# Altium footprint library con-omron.PCBLIB: 109 footprints (part 4 of 8)
Each footprint in its own frame and in the unit in brackets; x right, y up, seen from the top. Pads: shape width x height; smd on the part's side, far side on the other; paste and mask are expansions set on the pad; w line width, h text height; cw(c..) or ccw(c..) is an arc to the next point about the centre after c.
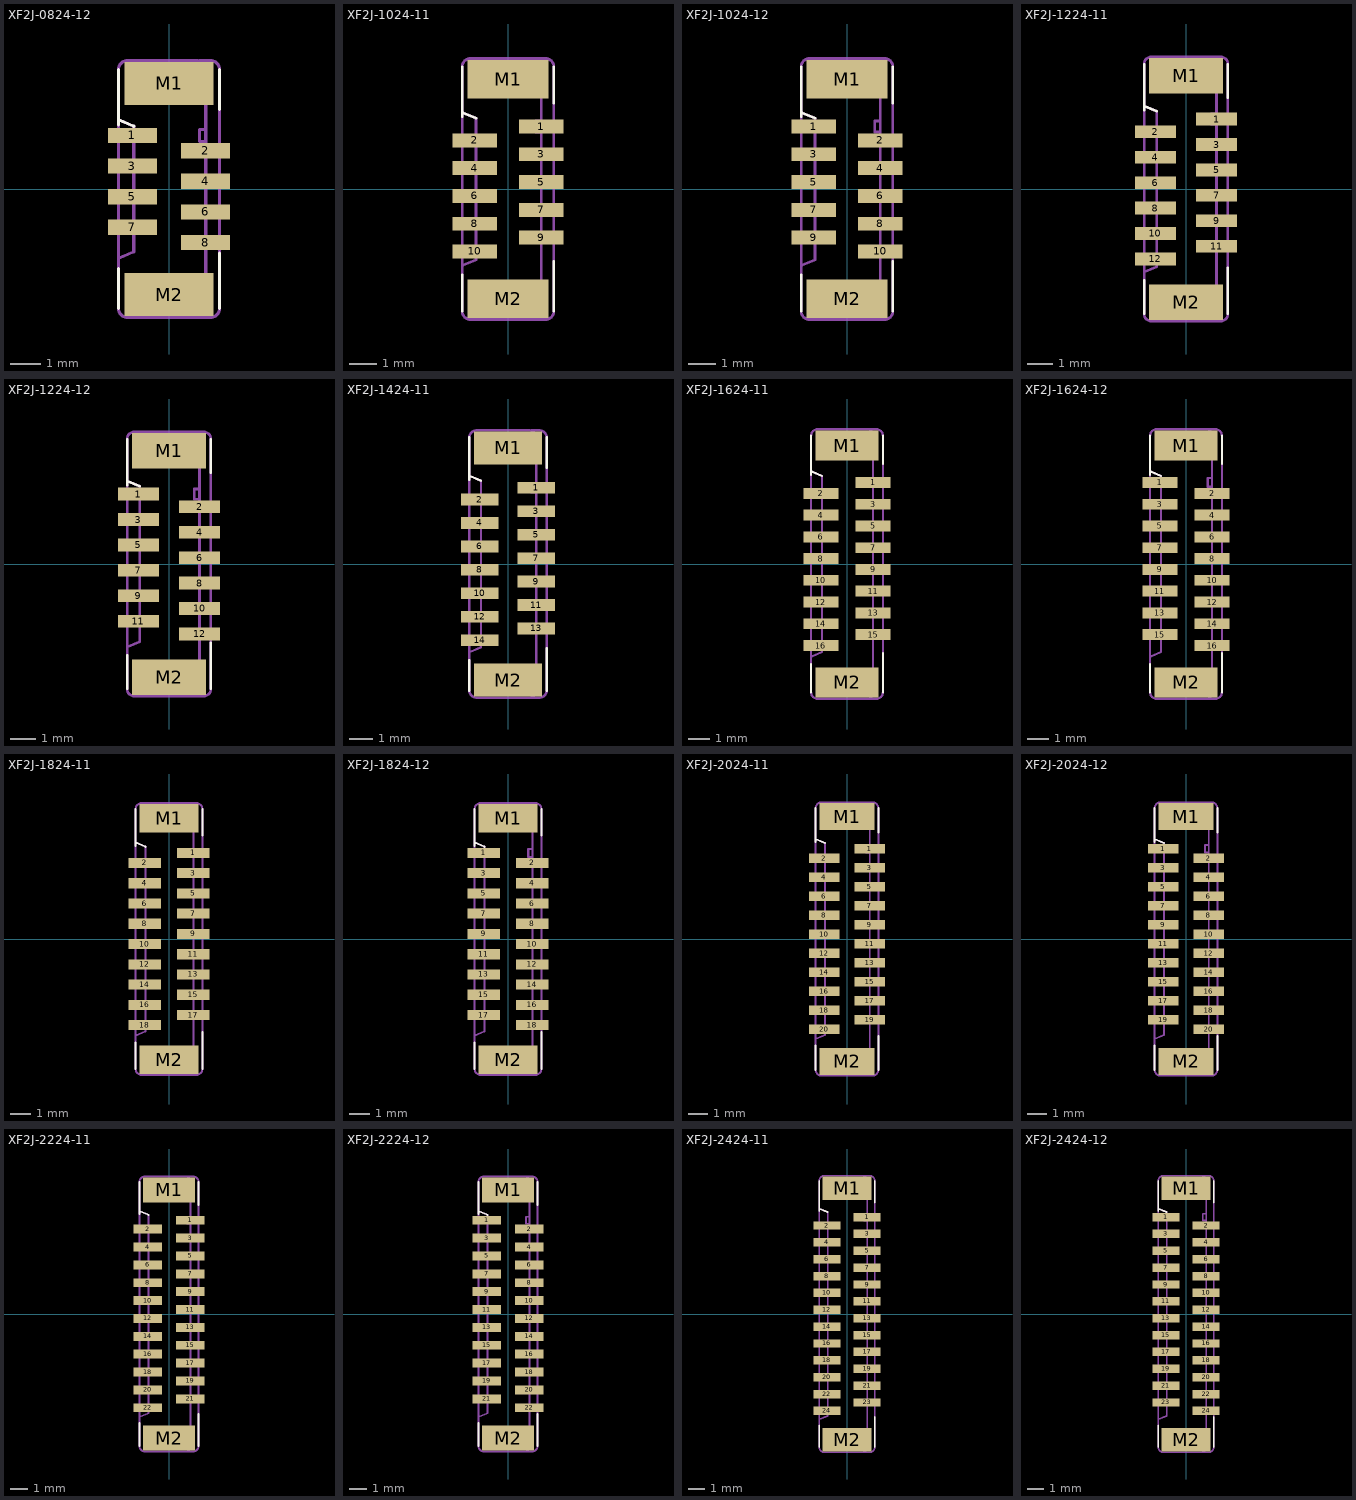
[diagram p3: the footprints below, top view; thin cyan lines are the x and y axes]

## XF2J-0824-12 [mm]
pads (10):
  rect 1.6x0.5 smd: 1(-1.2,1.75) 2(1.2,1.25) 3(-1.2,0.75) 4(1.2,0.25) 5(-1.2,-0.25) 6(1.2,-0.75) 7(-1.2,-1.25) 8(1.2,-1.75)
  rect 2.9x1.4 smd: M1(0,3.45) M2(0,-3.45)
Top Overlay:
  lines w0.102: -1.65,-3.9 -1.65,-2.6 ; -1.65,2.1 -1.65,3.9 ; -1.625,2.25 -1.15,2.05 ; 1.65,-3.9 1.65,-2.1 ; 1.65,2.6 1.65,3.9
Mechanical 16:
  lines w0.102: -1.625,-2.25 -1.15,-2.05 -1.15,2.05 -1.625,2.25 ; 0.975,-4.2 1.35,-4.2 ccw(c1.35,-3.9) 1.65,-3.9 1.65,3.9 ccw(c1.35,3.9) 1.35,4.2 1,4.2 ; 1.15,1.55 1,1.55 1,1.95 1.15,1.95 ; -1.65,-3.9 -1.65,3.9 cw(c-1.35,3.9) -1.35,4.2 0.9,4.2 cw(c0.9,3.9) 1.2,3.9 1.2,-3.9 cw(c0.9,-3.9) 0.9,-4.2 -1.35,-4.2 cw(c-1.35,-3.9) -1.65,-3.9

## XF2J-1024-11 [mm]
pads (12):
  rect 1.6x0.5 smd: 1(1.2,2.25) 2(-1.2,1.75) 3(1.2,1.25) 4(-1.2,0.75) 5(1.2,0.25) 6(-1.2,-0.25) 7(1.2,-0.75) 8(-1.2,-1.25) 9(1.2,-1.75) 10(-1.2,-2.25)
  rect 2.9x1.4 smd: M1(0,3.95) M2(0,-3.95)
Top Overlay:
  lines w0.102: -1.65,-4.4 -1.65,-3.1 ; -1.65,2.6 -1.65,4.4 ; -1.625,2.75 -1.15,2.55 ; 1.65,-4.4 1.65,-2.6 ; 1.65,3.1 1.65,4.4
Mechanical 16:
  lines w0.102: -1.625,-2.75 -1.15,-2.55 -1.15,2.55 -1.625,2.75 ; 0.975,-4.7 1.35,-4.7 ccw(c1.35,-4.4) 1.65,-4.4 1.65,4.4 ccw(c1.35,4.4) 1.35,4.7 1,4.7 ; 1.15,2.05 1,2.05 1,2.45 1.15,2.45 ; -1.65,-4.4 -1.65,4.4 cw(c-1.35,4.4) -1.35,4.7 0.9,4.7 cw(c0.9,4.4) 1.2,4.4 1.2,-4.4 cw(c0.9,-4.4) 0.9,-4.7 -1.35,-4.7 cw(c-1.35,-4.4) -1.65,-4.4

## XF2J-1024-12 [mm]
pads (12):
  rect 1.6x0.5 smd: 1(-1.2,2.25) 2(1.2,1.75) 3(-1.2,1.25) 4(1.2,0.75) 5(-1.2,0.25) 6(1.2,-0.25) 7(-1.2,-0.75) 8(1.2,-1.25) 9(-1.2,-1.75) 10(1.2,-2.25)
  rect 2.9x1.4 smd: M1(0,3.95) M2(0,-3.95)
Top Overlay:
  lines w0.102: -1.65,-4.4 -1.65,-3.1 ; -1.65,2.6 -1.65,4.4 ; -1.625,2.75 -1.15,2.55 ; 1.65,-4.4 1.65,-2.6 ; 1.65,3.1 1.65,4.4
Mechanical 16:
  lines w0.102: -1.625,-2.75 -1.15,-2.55 -1.15,2.55 -1.625,2.75 ; 0.975,-4.7 1.35,-4.7 ccw(c1.35,-4.4) 1.65,-4.4 1.65,4.4 ccw(c1.35,4.4) 1.35,4.7 1,4.7 ; 1.15,2.05 1,2.05 1,2.45 1.15,2.45 ; -1.65,-4.4 -1.65,4.4 cw(c-1.35,4.4) -1.35,4.7 0.9,4.7 cw(c0.9,4.4) 1.2,4.4 1.2,-4.4 cw(c0.9,-4.4) 0.9,-4.7 -1.35,-4.7 cw(c-1.35,-4.4) -1.65,-4.4

## XF2J-1224-11 [mm]
pads (14):
  rect 1.6x0.5 smd: 1(1.2,2.75) 2(-1.2,2.25) 3(1.2,1.75) 4(-1.2,1.25) 5(1.2,0.75) 6(-1.2,0.25) 7(1.2,-0.25) 8(-1.2,-0.75) 9(1.2,-1.25) 10(-1.2,-1.75) 11(1.2,-2.25) 12(-1.2,-2.75)
  rect 2.9x1.4 smd: M1(0,4.45) M2(0,-4.45)
Top Overlay:
  lines w0.102: -1.65,-4.9 -1.65,-3.6 ; -1.65,3.1 -1.65,4.9 ; -1.625,3.25 -1.15,3.05 ; 1.65,-4.9 1.65,-3.1 ; 1.65,3.6 1.65,4.9
Mechanical 16:
  lines w0.102: -1.625,-3.25 -1.15,-3.05 -1.15,3.05 -1.625,3.25 ; 0.975,-5.2 1.35,-5.2 ccw(c1.35,-4.9) 1.65,-4.9 1.65,4.9 ccw(c1.35,4.9) 1.35,5.2 1,5.2 ; 1.15,2.55 1,2.55 1,2.95 1.15,2.95 ; -1.65,-4.9 -1.65,4.9 cw(c-1.35,4.9) -1.35,5.2 0.9,5.2 cw(c0.9,4.9) 1.2,4.9 1.2,-4.9 cw(c0.9,-4.9) 0.9,-5.2 -1.35,-5.2 cw(c-1.35,-4.9) -1.65,-4.9

## XF2J-1224-12 [mm]
pads (14):
  rect 1.6x0.5 smd: 1(-1.2,2.75) 2(1.2,2.25) 3(-1.2,1.75) 4(1.2,1.25) 5(-1.2,0.75) 6(1.2,0.25) 7(-1.2,-0.25) 8(1.2,-0.75) 9(-1.2,-1.25) 10(1.2,-1.75) 11(-1.2,-2.25) 12(1.2,-2.75)
  rect 2.9x1.4 smd: M1(0,4.45) M2(0,-4.45)
Top Overlay:
  lines w0.102: -1.65,-4.9 -1.65,-3.6 ; -1.65,3.1 -1.65,4.9 ; -1.625,3.25 -1.15,3.05 ; 1.65,-4.9 1.65,-3.1 ; 1.65,3.6 1.65,4.9
Mechanical 16:
  lines w0.102: -1.625,-3.25 -1.15,-3.05 -1.15,3.05 -1.625,3.25 ; 0.975,-5.2 1.35,-5.2 ccw(c1.35,-4.9) 1.65,-4.9 1.65,4.9 ccw(c1.35,4.9) 1.35,5.2 1,5.2 ; 1.15,2.55 1,2.55 1,2.95 1.15,2.95 ; -1.65,-4.9 -1.65,4.9 cw(c-1.35,4.9) -1.35,5.2 0.9,5.2 cw(c0.9,4.9) 1.2,4.9 1.2,-4.9 cw(c0.9,-4.9) 0.9,-5.2 -1.35,-5.2 cw(c-1.35,-4.9) -1.65,-4.9

## XF2J-1424-11 [mm]
pads (16):
  rect 1.6x0.5 smd: 1(1.2,3.25) 2(-1.2,2.75) 3(1.2,2.25) 4(-1.2,1.75) 5(1.2,1.25) 6(-1.2,0.75) 7(1.2,0.25) 8(-1.2,-0.25) 9(1.2,-0.75) 10(-1.2,-1.25) 11(1.2,-1.75) 12(-1.2,-2.25) 13(1.2,-2.75) 14(-1.2,-3.25)
  rect 2.9x1.4 smd: M1(0,4.95) M2(0,-4.95)
Top Overlay:
  lines w0.102: -1.65,-5.4 -1.65,-4.1 ; -1.65,3.6 -1.65,5.4 ; -1.625,3.75 -1.15,3.55 ; 1.65,-5.4 1.65,-3.6 ; 1.65,4.1 1.65,5.4
Mechanical 16:
  lines w0.102: -1.625,-3.75 -1.15,-3.55 -1.15,3.55 -1.625,3.75 ; 0.975,-5.7 1.35,-5.7 ccw(c1.35,-5.4) 1.65,-5.4 1.65,5.4 ccw(c1.35,5.4) 1.35,5.7 1,5.7 ; 1.15,3.05 1,3.05 1,3.45 1.15,3.45 ; -1.65,-5.4 -1.65,5.4 cw(c-1.35,5.4) -1.35,5.7 0.9,5.7 cw(c0.9,5.4) 1.2,5.4 1.2,-5.4 cw(c0.9,-5.4) 0.9,-5.7 -1.35,-5.7 cw(c-1.35,-5.4) -1.65,-5.4

## XF2J-1624-11 [mm]
pads (18):
  rect 1.6x0.5 smd: 1(1.2,3.75) 2(-1.2,3.25) 3(1.2,2.75) 4(-1.2,2.25) 5(1.2,1.75) 6(-1.2,1.25) 7(1.2,0.75) 8(-1.2,0.25) 9(1.2,-0.25) 10(-1.2,-0.75) 11(1.2,-1.25) 12(-1.2,-1.75) 13(1.2,-2.25) 14(-1.2,-2.75) 15(1.2,-3.25) 16(-1.2,-3.75)
  rect 2.9x1.4 smd: M1(0,5.45) M2(0,-5.45)
Top Overlay:
  lines w0.102: -1.65,-5.9 -1.65,-4.6 ; -1.65,4.1 -1.65,5.9 ; -1.625,4.25 -1.15,4.05 ; 1.65,-5.9 1.65,-4.1 ; 1.65,4.6 1.65,5.9
Mechanical 16:
  lines w0.102: -1.625,-4.25 -1.15,-4.05 -1.15,4.05 -1.625,4.25 ; 0.975,-6.2 1.35,-6.2 ccw(c1.35,-5.9) 1.65,-5.9 1.65,5.9 ccw(c1.35,5.9) 1.35,6.2 1,6.2 ; 1.15,3.55 1,3.55 1,3.95 1.15,3.95 ; -1.65,-5.9 -1.65,5.9 cw(c-1.35,5.9) -1.35,6.2 0.9,6.2 cw(c0.9,5.9) 1.2,5.9 1.2,-5.9 cw(c0.9,-5.9) 0.9,-6.2 -1.35,-6.2 cw(c-1.35,-5.9) -1.65,-5.9

## XF2J-1624-12 [mm]
pads (18):
  rect 1.6x0.5 smd: 1(-1.2,3.75) 2(1.2,3.25) 3(-1.2,2.75) 4(1.2,2.25) 5(-1.2,1.75) 6(1.2,1.25) 7(-1.2,0.75) 8(1.2,0.25) 9(-1.2,-0.25) 10(1.2,-0.75) 11(-1.2,-1.25) 12(1.2,-1.75) 13(-1.2,-2.25) 14(1.2,-2.75) 15(-1.2,-3.25) 16(1.2,-3.75)
  rect 2.9x1.4 smd: M1(0,5.45) M2(0,-5.45)
Top Overlay:
  lines w0.102: -1.65,-5.9 -1.65,-4.6 ; -1.65,4.1 -1.65,5.9 ; -1.625,4.25 -1.15,4.05 ; 1.65,-5.9 1.65,-4.1 ; 1.65,4.6 1.65,5.9
Mechanical 16:
  lines w0.102: -1.625,-4.25 -1.15,-4.05 -1.15,4.05 -1.625,4.25 ; 0.975,-6.2 1.35,-6.2 ccw(c1.35,-5.9) 1.65,-5.9 1.65,5.9 ccw(c1.35,5.9) 1.35,6.2 1,6.2 ; 1.15,3.55 1,3.55 1,3.95 1.15,3.95 ; -1.65,-5.9 -1.65,5.9 cw(c-1.35,5.9) -1.35,6.2 0.9,6.2 cw(c0.9,5.9) 1.2,5.9 1.2,-5.9 cw(c0.9,-5.9) 0.9,-6.2 -1.35,-6.2 cw(c-1.35,-5.9) -1.65,-5.9

## XF2J-1824-11 [mm]
pads (20):
  rect 1.6x0.5 smd: 1(1.2,4.25) 2(-1.2,3.75) 3(1.2,3.25) 4(-1.2,2.75) 5(1.2,2.25) 6(-1.2,1.75) 7(1.2,1.25) 8(-1.2,0.75) 9(1.2,0.25) 10(-1.2,-0.25) 11(1.2,-0.75) 12(-1.2,-1.25) 13(1.2,-1.75) 14(-1.2,-2.25) 15(1.2,-2.75) 16(-1.2,-3.25) 17(1.2,-3.75) 18(-1.2,-4.25)
  rect 2.9x1.4 smd: M1(0,5.95) M2(0,-5.95)
Top Overlay:
  lines w0.102: -1.65,-6.4 -1.65,-5.1 ; -1.65,4.6 -1.65,6.4 ; -1.625,4.75 -1.15,4.55 ; 1.65,-6.4 1.65,-4.6 ; 1.65,5.1 1.65,6.4
Mechanical 16:
  lines w0.102: -1.625,-4.75 -1.15,-4.55 -1.15,4.55 -1.625,4.75 ; 0.975,-6.7 1.35,-6.7 ccw(c1.35,-6.4) 1.65,-6.4 1.65,6.4 ccw(c1.35,6.4) 1.35,6.7 1,6.7 ; 1.15,4.05 1,4.05 1,4.45 1.15,4.45 ; -1.65,-6.4 -1.65,6.4 cw(c-1.35,6.4) -1.35,6.7 0.9,6.7 cw(c0.9,6.4) 1.2,6.4 1.2,-6.4 cw(c0.9,-6.4) 0.9,-6.7 -1.35,-6.7 cw(c-1.35,-6.4) -1.65,-6.4

## XF2J-1824-12 [mm]
pads (20):
  rect 1.6x0.5 smd: 1(-1.2,4.25) 2(1.2,3.75) 3(-1.2,3.25) 4(1.2,2.75) 5(-1.2,2.25) 6(1.2,1.75) 7(-1.2,1.25) 8(1.2,0.75) 9(-1.2,0.25) 10(1.2,-0.25) 11(-1.2,-0.75) 12(1.2,-1.25) 13(-1.2,-1.75) 14(1.2,-2.25) 15(-1.2,-2.75) 16(1.2,-3.25) 17(-1.2,-3.75) 18(1.2,-4.25)
  rect 2.9x1.4 smd: M1(0,5.95) M2(0,-5.95)
Top Overlay:
  lines w0.102: -1.65,-6.4 -1.65,-5.1 ; -1.65,4.6 -1.65,6.4 ; -1.625,4.75 -1.15,4.55 ; 1.65,-6.4 1.65,-4.6 ; 1.65,5.1 1.65,6.4
Mechanical 16:
  lines w0.102: -1.625,-4.75 -1.15,-4.55 -1.15,4.55 -1.625,4.75 ; 0.975,-6.7 1.35,-6.7 ccw(c1.35,-6.4) 1.65,-6.4 1.65,6.4 ccw(c1.35,6.4) 1.35,6.7 1,6.7 ; 1.15,4.05 1,4.05 1,4.45 1.15,4.45 ; -1.65,-6.4 -1.65,6.4 cw(c-1.35,6.4) -1.35,6.7 0.9,6.7 cw(c0.9,6.4) 1.2,6.4 1.2,-6.4 cw(c0.9,-6.4) 0.9,-6.7 -1.35,-6.7 cw(c-1.35,-6.4) -1.65,-6.4

## XF2J-2024-11 [mm]
pads (22):
  rect 1.6x0.5 smd: 1(1.2,4.75) 2(-1.2,4.25) 3(1.2,3.75) 4(-1.2,3.25) 5(1.2,2.75) 6(-1.2,2.25) 7(1.2,1.75) 8(-1.2,1.25) 9(1.2,0.75) 10(-1.2,0.25) 11(1.2,-0.25) 12(-1.2,-0.75) 13(1.2,-1.25) 14(-1.2,-1.75) 15(1.2,-2.25) 16(-1.2,-2.75) 17(1.2,-3.25) 18(-1.2,-3.75) 19(1.2,-4.25) 20(-1.2,-4.75)
  rect 2.9x1.4 smd: M1(0,6.45) M2(0,-6.45)
Top Overlay:
  lines w0.102: -1.65,-6.9 -1.65,-5.6 ; -1.65,5.1 -1.65,6.9 ; -1.625,5.25 -1.15,5.05 ; 1.65,-6.9 1.65,-5.1 ; 1.65,5.6 1.65,6.9
Mechanical 16:
  lines w0.102: -1.625,-5.25 -1.15,-5.05 -1.15,5.05 -1.625,5.25 ; 0.975,-7.2 1.35,-7.2 ccw(c1.35,-6.9) 1.65,-6.9 1.65,6.9 ccw(c1.35,6.9) 1.35,7.2 1,7.2 ; 1.15,4.55 1,4.55 1,4.95 1.15,4.95 ; -1.65,-6.9 -1.65,6.9 cw(c-1.35,6.9) -1.35,7.2 0.9,7.2 cw(c0.9,6.9) 1.2,6.9 1.2,-6.9 cw(c0.9,-6.9) 0.9,-7.2 -1.35,-7.2 cw(c-1.35,-6.9) -1.65,-6.9

## XF2J-2024-12 [mm]
pads (22):
  rect 1.6x0.5 smd: 1(-1.2,4.75) 2(1.2,4.25) 3(-1.2,3.75) 4(1.2,3.25) 5(-1.2,2.75) 6(1.2,2.25) 7(-1.2,1.75) 8(1.2,1.25) 9(-1.2,0.75) 10(1.2,0.25) 11(-1.2,-0.25) 12(1.2,-0.75) 13(-1.2,-1.25) 14(1.2,-1.75) 15(-1.2,-2.25) 16(1.2,-2.75) 17(-1.2,-3.25) 18(1.2,-3.75) 19(-1.2,-4.25) 20(1.2,-4.75)
  rect 2.9x1.4 smd: M1(0,6.45) M2(0,-6.45)
Top Overlay:
  lines w0.102: -1.65,-6.9 -1.65,-5.6 ; -1.65,5.1 -1.65,6.9 ; -1.625,5.25 -1.15,5.05 ; 1.65,-6.9 1.65,-5.1 ; 1.65,5.6 1.65,6.9
Mechanical 16:
  lines w0.102: -1.625,-5.25 -1.15,-5.05 -1.15,5.05 -1.625,5.25 ; 0.975,-7.2 1.35,-7.2 ccw(c1.35,-6.9) 1.65,-6.9 1.65,6.9 ccw(c1.35,6.9) 1.35,7.2 1,7.2 ; 1.15,4.55 1,4.55 1,4.95 1.15,4.95 ; -1.65,-6.9 -1.65,6.9 cw(c-1.35,6.9) -1.35,7.2 0.9,7.2 cw(c0.9,6.9) 1.2,6.9 1.2,-6.9 cw(c0.9,-6.9) 0.9,-7.2 -1.35,-7.2 cw(c-1.35,-6.9) -1.65,-6.9

## XF2J-2224-11 [mm]
pads (24):
  rect 1.6x0.5 smd: 1(1.2,5.25) 2(-1.2,4.75) 3(1.2,4.25) 4(-1.2,3.75) 5(1.2,3.25) 6(-1.2,2.75) 7(1.2,2.25) 8(-1.2,1.75) 9(1.2,1.25) 10(-1.2,0.75) 11(1.2,0.25) 12(-1.2,-0.25) 13(1.2,-0.75) 14(-1.2,-1.25) 15(1.2,-1.75) 16(-1.2,-2.25) 17(1.2,-2.75) 18(-1.2,-3.25) 19(1.2,-3.75) 20(-1.2,-4.25) 21(1.2,-4.75) 22(-1.2,-5.25)
  rect 2.9x1.4 smd: M1(0,6.95) M2(0,-6.95)
Top Overlay:
  lines w0.102: -1.65,-7.4 -1.65,-6.1 ; -1.65,5.6 -1.65,7.4 ; -1.625,5.75 -1.15,5.55 ; 1.65,-7.4 1.65,-5.6 ; 1.65,6.1 1.65,7.4
Mechanical 16:
  lines w0.102: -1.625,-5.75 -1.15,-5.55 -1.15,5.55 -1.625,5.75 ; 0.975,-7.7 1.35,-7.7 ccw(c1.35,-7.4) 1.65,-7.4 1.65,7.4 ccw(c1.35,7.4) 1.35,7.7 1,7.7 ; 1.15,5.05 1,5.05 1,5.45 1.15,5.45 ; -1.65,-7.4 -1.65,7.4 cw(c-1.35,7.4) -1.35,7.7 0.9,7.7 cw(c0.9,7.4) 1.2,7.4 1.2,-7.4 cw(c0.9,-7.4) 0.9,-7.7 -1.35,-7.7 cw(c-1.35,-7.4) -1.65,-7.4

## XF2J-2224-12 [mm]
pads (24):
  rect 1.6x0.5 smd: 1(-1.2,5.25) 2(1.2,4.75) 3(-1.2,4.25) 4(1.2,3.75) 5(-1.2,3.25) 6(1.2,2.75) 7(-1.2,2.25) 8(1.2,1.75) 9(-1.2,1.25) 10(1.2,0.75) 11(-1.2,0.25) 12(1.2,-0.25) 13(-1.2,-0.75) 14(1.2,-1.25) 15(-1.2,-1.75) 16(1.2,-2.25) 17(-1.2,-2.75) 18(1.2,-3.25) 19(-1.2,-3.75) 20(1.2,-4.25) 21(-1.2,-4.75) 22(1.2,-5.25)
  rect 2.9x1.4 smd: M1(0,6.95) M2(0,-6.95)
Top Overlay:
  lines w0.102: -1.65,-7.4 -1.65,-6.1 ; -1.65,5.6 -1.65,7.4 ; -1.625,5.75 -1.15,5.55 ; 1.65,-7.4 1.65,-5.6 ; 1.65,6.1 1.65,7.4
Mechanical 16:
  lines w0.102: -1.625,-5.75 -1.15,-5.55 -1.15,5.55 -1.625,5.75 ; 0.975,-7.7 1.35,-7.7 ccw(c1.35,-7.4) 1.65,-7.4 1.65,7.4 ccw(c1.35,7.4) 1.35,7.7 1,7.7 ; 1.15,5.05 1,5.05 1,5.45 1.15,5.45 ; -1.65,-7.4 -1.65,7.4 cw(c-1.35,7.4) -1.35,7.7 0.9,7.7 cw(c0.9,7.4) 1.2,7.4 1.2,-7.4 cw(c0.9,-7.4) 0.9,-7.7 -1.35,-7.7 cw(c-1.35,-7.4) -1.65,-7.4

## XF2J-2424-11 [mm]
pads (26):
  rect 1.6x0.5 smd: 1(1.2,5.75) 2(-1.2,5.25) 3(1.2,4.75) 4(-1.2,4.25) 5(1.2,3.75) 6(-1.2,3.25) 7(1.2,2.75) 8(-1.2,2.25) 9(1.2,1.75) 10(-1.2,1.25) 11(1.2,0.75) 12(-1.2,0.25) 13(1.2,-0.25) 14(-1.2,-0.75) 15(1.2,-1.25) 16(-1.2,-1.75) 17(1.2,-2.25) 18(-1.2,-2.75) 19(1.2,-3.25) 20(-1.2,-3.75) 21(1.2,-4.25) 22(-1.2,-4.75) 23(1.2,-5.25) 24(-1.2,-5.75)
  rect 2.9x1.4 smd: M1(0,7.45) M2(0,-7.45)
Top Overlay:
  lines w0.102: -1.65,-7.9 -1.65,-6.6 ; -1.65,6.1 -1.65,7.9 ; -1.625,6.25 -1.15,6.05 ; 1.65,-7.9 1.65,-6.1 ; 1.65,6.6 1.65,7.9
Mechanical 16:
  lines w0.102: -1.625,-6.25 -1.15,-6.05 -1.15,6.05 -1.625,6.25 ; 0.975,-8.2 1.35,-8.2 ccw(c1.35,-7.9) 1.65,-7.9 1.65,7.9 ccw(c1.35,7.9) 1.35,8.2 1,8.2 ; 1.15,5.55 1,5.55 1,5.95 1.15,5.95 ; -1.65,-7.9 -1.65,7.9 cw(c-1.35,7.9) -1.35,8.2 0.9,8.2 cw(c0.9,7.9) 1.2,7.9 1.2,-7.9 cw(c0.9,-7.9) 0.9,-8.2 -1.35,-8.2 cw(c-1.35,-7.9) -1.65,-7.9

## XF2J-2424-12 [mm]
pads (26):
  rect 1.6x0.5 smd: 1(-1.2,5.75) 2(1.2,5.25) 3(-1.2,4.75) 4(1.2,4.25) 5(-1.2,3.75) 6(1.2,3.25) 7(-1.2,2.75) 8(1.2,2.25) 9(-1.2,1.75) 10(1.2,1.25) 11(-1.2,0.75) 12(1.2,0.25) 13(-1.2,-0.25) 14(1.2,-0.75) 15(-1.2,-1.25) 16(1.2,-1.75) 17(-1.2,-2.25) 18(1.2,-2.75) 19(-1.2,-3.25) 20(1.2,-3.75) 21(-1.2,-4.25) 22(1.2,-4.75) 23(-1.2,-5.25) 24(1.2,-5.75)
  rect 2.9x1.4 smd: M1(0,7.45) M2(0,-7.45)
Top Overlay:
  lines w0.102: -1.65,-7.9 -1.65,-6.6 ; -1.65,6.1 -1.65,7.9 ; -1.625,6.25 -1.15,6.05 ; 1.65,-7.9 1.65,-6.1 ; 1.65,6.6 1.65,7.9
Mechanical 16:
  lines w0.102: -1.625,-6.25 -1.15,-6.05 -1.15,6.05 -1.625,6.25 ; 0.975,-8.2 1.35,-8.2 ccw(c1.35,-7.9) 1.65,-7.9 1.65,7.9 ccw(c1.35,7.9) 1.35,8.2 1,8.2 ; 1.15,5.55 1,5.55 1,5.95 1.15,5.95 ; -1.65,-7.9 -1.65,7.9 cw(c-1.35,7.9) -1.35,8.2 0.9,8.2 cw(c0.9,7.9) 1.2,7.9 1.2,-7.9 cw(c0.9,-7.9) 0.9,-8.2 -1.35,-8.2 cw(c-1.35,-7.9) -1.65,-7.9